# EAGLE library part HIGH-CURRENT-EDGE-64P (library Generic Connector)
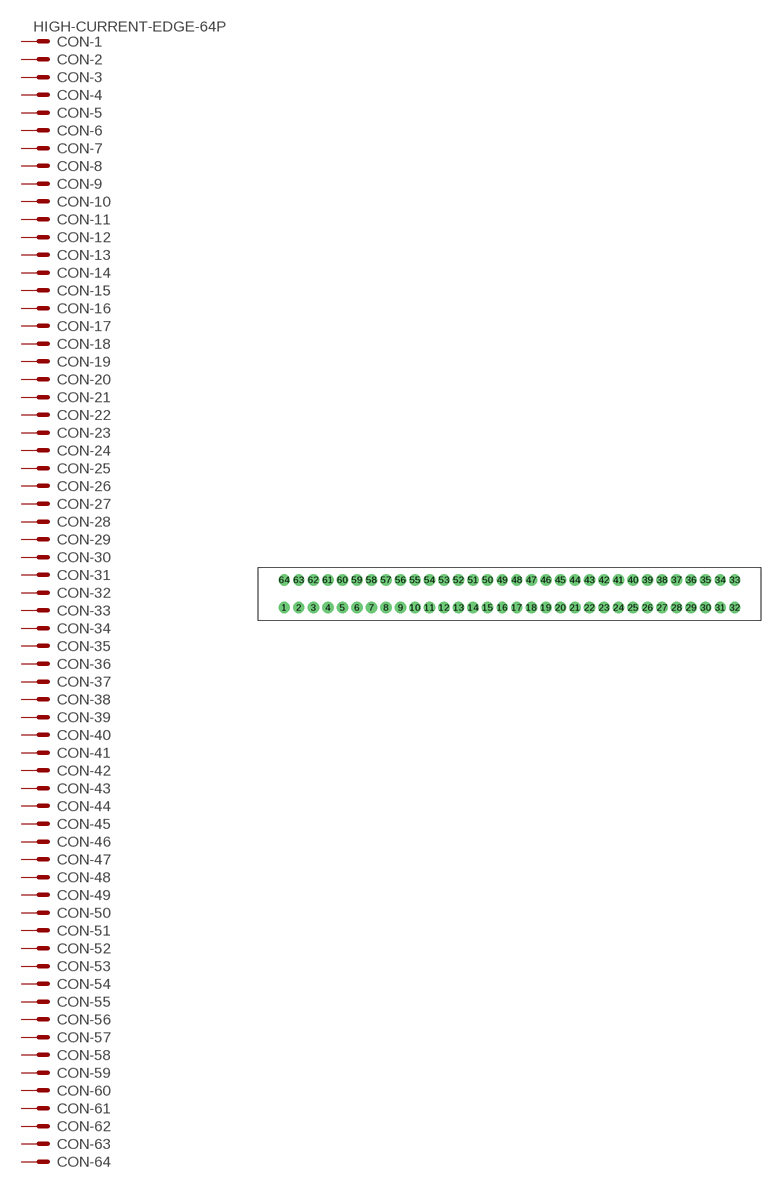
[diagram p6: symbol with the pads of HIGH-CURRENT-EDGE-64P; footprint HIGH-CURRENT-EDGE-64P]

Designator prefix CON; gates -2=K -1=KV -3=K -4=K -5=K -6=K -7=K -8=K -9=K -10=K -11=K -12=K -13=K -14=K -15=K -17=K -18=K -19=K -20=K -21=K -22=K -23=K -24=K -25=K -26=K -27=K -28=K -29=K -30=K -31=K -32=K -16=K -33=K -34=K -35=K -36=K -37=K -38=K -39=K -40=K -41=K -42=K -43=K -44=K -45=K -46=K -47=K -48=K -49=K -50=K -51=K -52=K -53=K -54=K -55=K -56=K -57=K -58=K -59=K -60=K -61=K -62=K -63=K -64=K

## HIGH-CURRENT-EDGE-64P  [HIGH-CURRENT-EDGE-64P]
1  -1:S  pas
2  -2:S  pas
3  -3:S  pas
4  -4:S  pas
5  -5:S  pas
6  -6:S  pas
7  -7:S  pas
8  -8:S  pas
9  -9:S  pas
10  -10:S  pas
11  -11:S  pas
12  -12:S  pas
13  -13:S  pas
14  -14:S  pas
15  -15:S  pas
16  -16:S  pas
17  -17:S  pas
18  -18:S  pas
19  -19:S  pas
20  -20:S  pas
21  -21:S  pas
22  -22:S  pas
23  -23:S  pas
24  -24:S  pas
25  -25:S  pas
26  -26:S  pas
27  -27:S  pas
28  -28:S  pas
29  -29:S  pas
30  -30:S  pas
31  -31:S  pas
32  -32:S  pas
33  -33:S  pas
34  -34:S  pas
35  -35:S  pas
36  -36:S  pas
37  -37:S  pas
38  -38:S  pas
39  -39:S  pas
40  -40:S  pas
41  -41:S  pas
42  -42:S  pas
43  -43:S  pas
44  -44:S  pas
45  -45:S  pas
46  -46:S  pas
47  -47:S  pas
48  -48:S  pas
49  -49:S  pas
50  -50:S  pas
51  -51:S  pas
52  -52:S  pas
53  -53:S  pas
54  -54:S  pas
55  -55:S  pas
56  -56:S  pas
57  -57:S  pas
58  -58:S  pas
59  -59:S  pas
60  -60:S  pas
61  -61:S  pas
62  -62:S  pas
63  -63:S  pas
64  -64:S  pas

## Footprint HIGH-CURRENT-EDGE-64P (pad centres in mm)
drill 1.02 pad 2: 1 -39.37,-2.42; 2 -36.83,-2.42; 3 -34.29,-2.42; 4 -31.75,-2.42; 5 -29.21,-2.42; 6 -26.67,-2.42; 7 -24.13,-2.42; 8 -21.59,-2.42; 9 -19.05,-2.42; 10 -16.51,-2.42; 11 -13.97,-2.42; 12 -11.43,-2.42; 13 -8.89,-2.42; 14 -6.35,-2.42; 15 -3.81,-2.42; 16 -1.27,-2.42; 17 1.27,-2.42; 18 3.81,-2.42; 19 6.35,-2.42; 20 8.89,-2.42; 21 11.43,-2.42; 22 13.97,-2.42; 23 16.51,-2.42; 24 19.05,-2.42; 25 21.59,-2.42; 26 24.13,-2.42; 27 26.67,-2.42; 28 29.21,-2.42; 29 31.75,-2.42; 30 34.29,-2.42; 31 36.83,-2.42; 32 39.37,-2.42; 33 39.37,2.42; 34 36.83,2.42; 35 34.29,2.42; 36 31.75,2.42; 37 29.21,2.42; 38 26.67,2.42; 39 24.13,2.42; 40 21.59,2.42; 41 19.05,2.42; 42 16.51,2.42; 43 13.97,2.42; 44 11.43,2.42; 45 8.89,2.42; 46 6.35,2.42; 47 3.81,2.42; 48 1.27,2.42; 49 -1.27,2.42; 50 -3.81,2.42; 51 -6.35,2.42; 52 -8.89,2.42; 53 -11.43,2.42; 54 -13.97,2.42; 55 -16.51,2.42; 56 -19.05,2.42; 57 -21.59,2.42; 58 -24.13,2.42; 59 -26.67,2.42; 60 -29.21,2.42; 61 -31.75,2.42; 62 -34.29,2.42; 63 -36.83,2.42; 64 -39.37,2.42